# Altium schematic symbol library NFM31HK153R1H3L.SchLib: 1 symbol
Pins are listed as number, name and electrical type; pins without a type are passive.

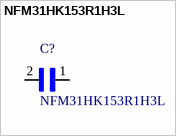
[diagram p0: symbol NFM31HK153R1H3L]

## NFM31HK153R1H3L
designator C?
CAP FEEDTHRU 0.015UF 50V 1206; MF: Murata; SnapEDA_Link: https://www.snapeda.com/parts/NFM31HK153R1H3L/Murata/view-part/4376471/?ref=snap; Package: 1206 Murata; MP: NFM31HK153R1H3L; Availability: Unavailable; Price: None; Value: *
footprint *CAPC3216X190
pins: 1, 2